# Altium footprint library Resistor_PCB_Lib.PcbLib: 2 footprints
Each footprint in its own frame and in the unit in brackets; x right, y up, seen from the top. Pads: shape width x height; smd on the part's side, far side on the other; paste and mask are expansions set on the pad; w line width, h text height; cw(c..) or ccw(c..) is an arc to the next point about the centre after c.
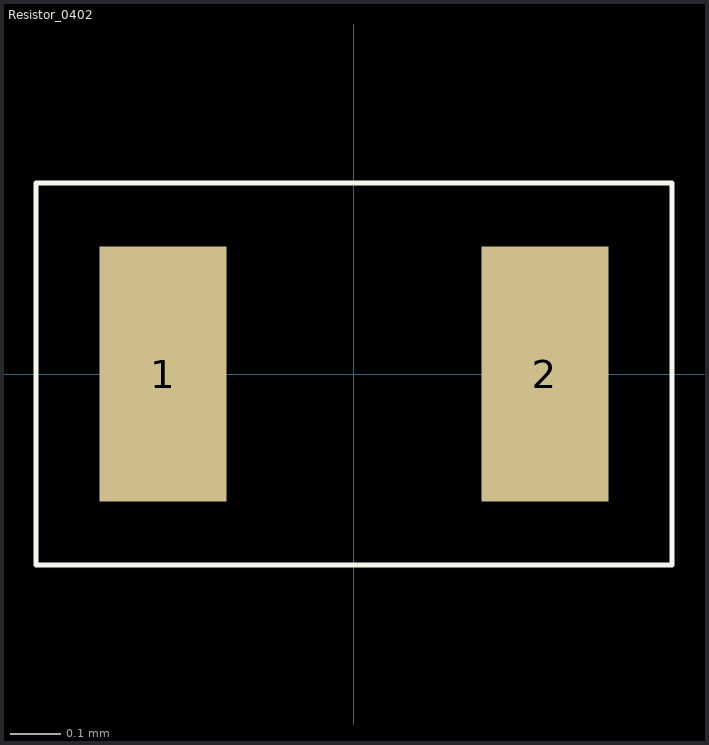
[diagram p0: the footprints below, top view; thin cyan lines are the x and y axes]

## PCBComponent_1 [mm]

## Resistor_0402 [mm] "0402"
pads (2):
  rect 0.25x0.5 smd: 1(-0.375,0) 2(0.375,0)
Top Overlay:
  lines w0.01: -0.625,-0.375 0.625,-0.375 0.625,0.375 -0.625,0.375 -0.625,-0.375